# Altium footprint library gpn-badge.PcbLib: 33 footprints (part 3 of 3)
Each footprint in its own frame and in the unit in brackets; x right, y up, seen from the top. Pads: shape width x height; smd on the part's side, far side on the other; paste and mask are expansions set on the pad; w line width, h text height; cw(c..) or ccw(c..) is an arc to the next point about the centre after c.
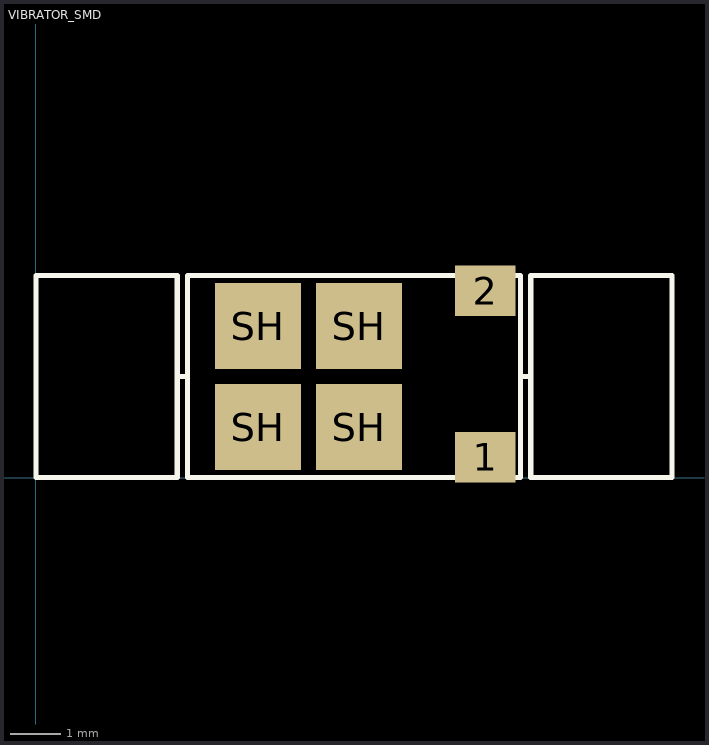
[diagram p2: the footprint, top view; thin cyan lines are the x and y axes]

## VIBRATOR_SMD [mm]
height 0.7
pads (6):
  rect 1.2x1 smd: 1(8.9,0.4) 2(8.9,3.7)
  rect 1.7x1.7 smd: SH(4.4,1) SH(4.4,3) SH(6.4,1) SH(6.4,3)
Top Overlay:
  lines w0.1: 2.8,2 3,2 ; 9.6,2 9.8,2 ; 3,2 3,0 9.6,0 9.6,4 3,4 3,2 ; 9.8,2 9.8,4 12.6,4 12.6,0 9.8,0 9.8,2 ; 0,0 2.8,0 2.8,4 0,4 0,0